# EAGLE library part P1AM-PROTO-SPI (library P1AM-PROTO)
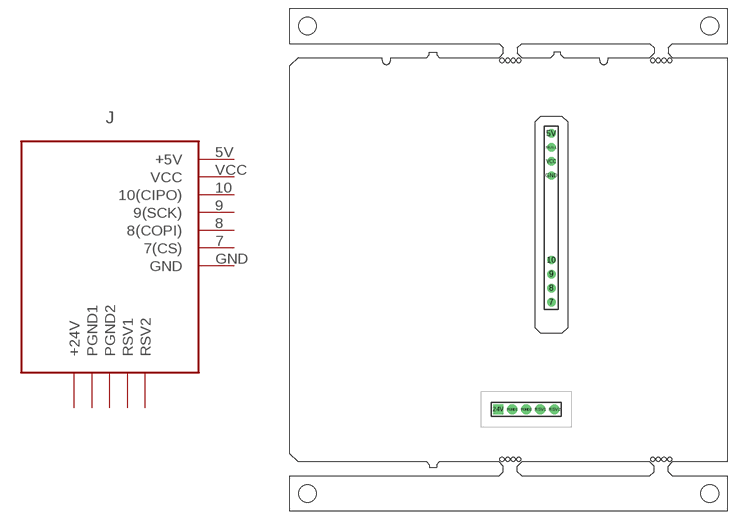
[diagram p0: symbol with the pads of P1AM-PROTO_SPI; footprint P1AM-PROTO_SPI]

Designator prefix J

## P1AM-PROTO-SPI  [P1AM-PROTO_SPI]
5V  +5V
7  7(CS)
8  8(COPI)
9  9(SCK)
10  10(CIPO)
24V  +24V
GND  GND
NULL  NULL  nc
PGND1  PGND1
PGND2  PGND2
RSV1  RSV1
RSV2  RSV2
VCC  VCC

## Footprint P1AM-PROTO_SPI (pad centres in mm)
drill 1: 5V 47.163,68.205; 7 47.163,37.725; 8 47.163,40.265; 9 47.163,42.805; 10 47.163,45.345; GND 47.163,60.585; NULL 47.163,65.665; VCC 47.163,63.125
drill 1 pad 1.778 square: 24V 37.562,18.37
drill 1 pad 1.778: PGND1 40.102,18.37; PGND2 42.642,18.37; RSV1 45.182,18.37; RSV2 47.722,18.37
hole 0.75 at 38.265,81.382
hole 0.75 at 39.281,81.382
hole 0.75 at 40.297,81.382
hole 0.75 at 41.313,81.382
hole 0.75 at 65.443,81.382
hole 0.75 at 66.459,81.382
hole 0.75 at 67.475,81.382
hole 0.75 at 68.491,81.382
hole 0.75 at 38.265,9.373
hole 0.75 at 39.281,9.373
hole 0.75 at 40.297,9.373
hole 0.75 at 41.313,9.373
hole 0.75 at 65.443,9.373
hole 0.75 at 66.459,9.373
hole 0.75 at 67.475,9.373
hole 0.75 at 68.491,9.373